# Altium footprint library MAX14871_Project.PcbLib: 22 footprints (part 1 of 2)
Each footprint in its own frame and in the unit in brackets; x right, y up, seen from the top. Pads: shape width x height; smd on the part's side, far side on the other; paste and mask are expansions set on the pad; w line width, h text height; cw(c..) or ccw(c..) is an arc to the next point about the centre after c.
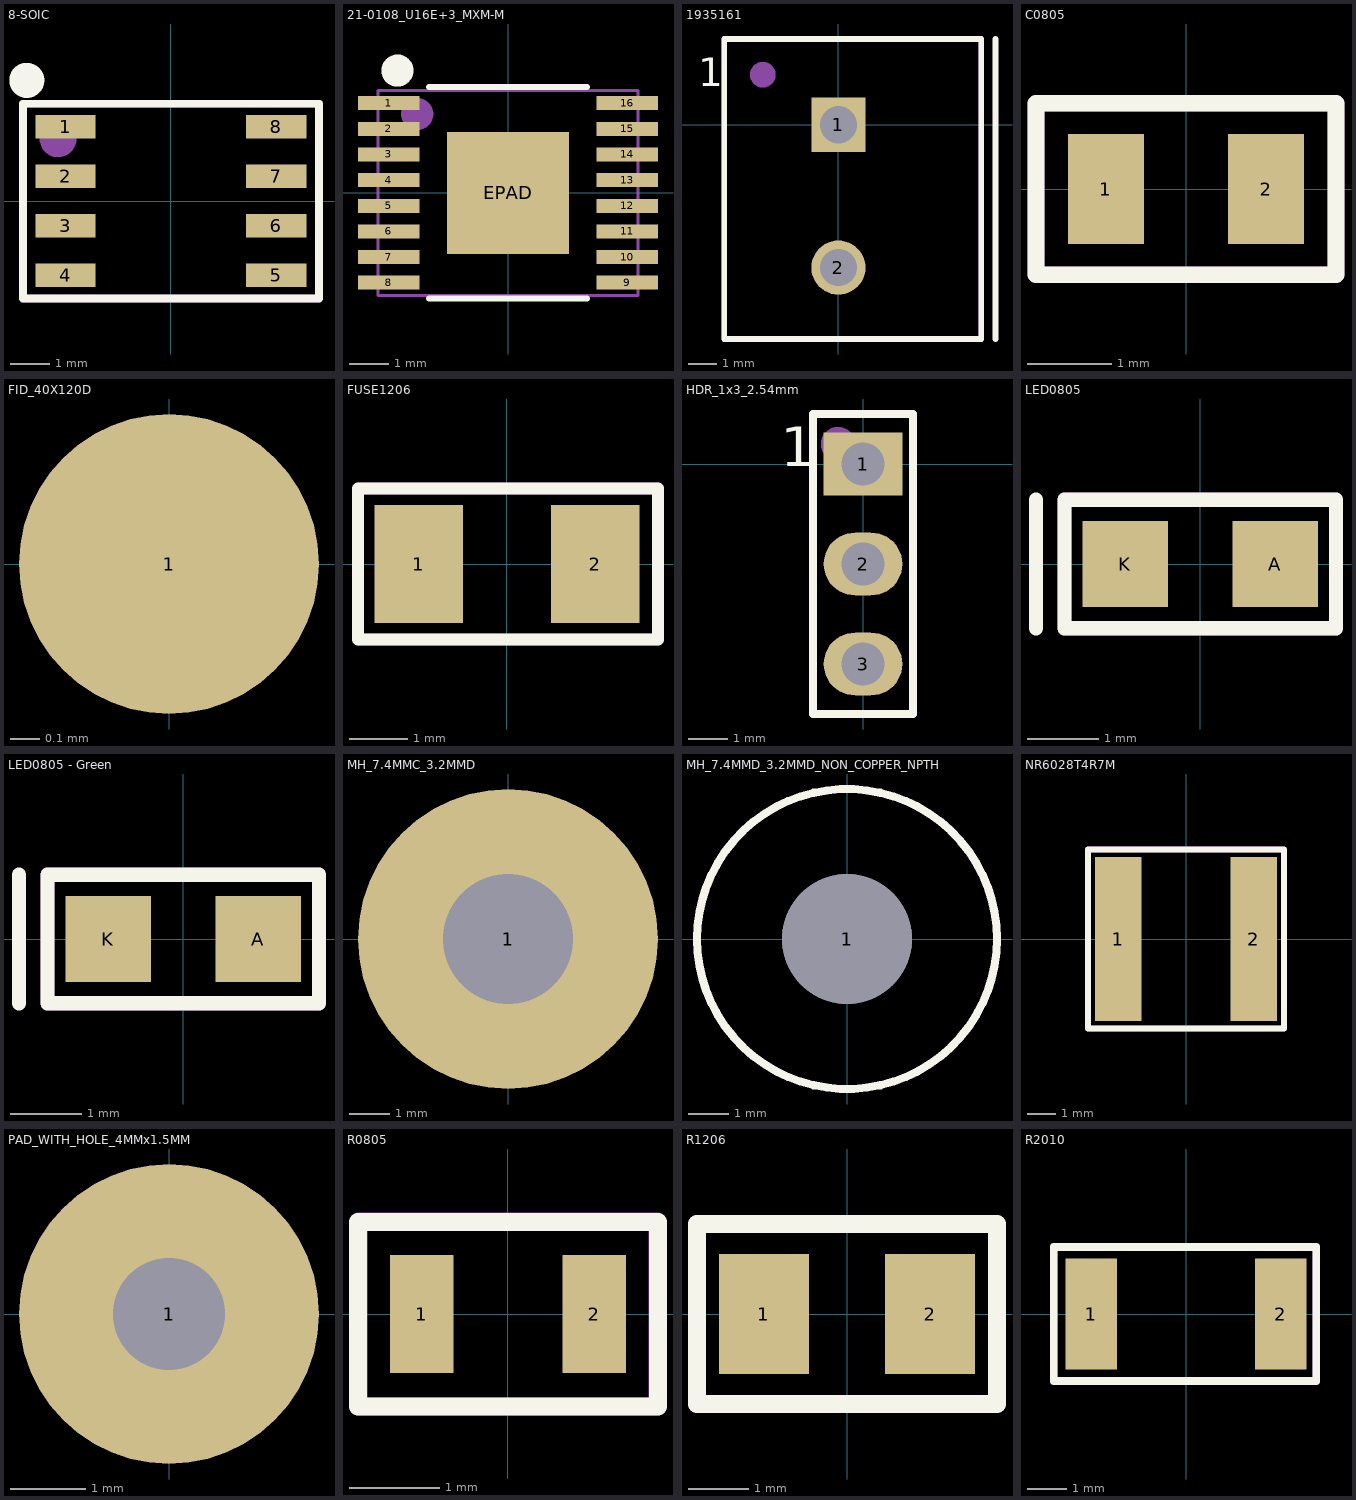
[diagram p0: the footprints below, top view; thin cyan lines are the x and y axes]

## 8-SOIC [mil]
pads (8):
  rect 61x24 smd: 1(-106.5,75) 2(-106.5,25) 3(-106.5,-25) 4(-106.5,-75) 5(106.5,-75) 6(106.5,-25) 7(106.5,25) 8(106.5,75)
Top Overlay:
  circle w19.68: c-145.67,122.05 r7.87
  lines w7.87: -149.61,-98.43 149.61,-98.43 149.61,98.43 -149.61,98.43 -149.61,-98.43
Mechanical 29 (Mech29):
  circle w19.68: c-114.17,62.99 r8.8
  lines w7.87: -149.61,-98.43 149.61,-98.43 149.61,98.43 -149.61,98.43 -149.61,-98.43
  text ".designator" at -47.24,-14.44 h39.37
3D body "NE555DR.STEP": height 69, standoff 0, extent -118,-96.5 118,96.5

## 21-0108_U16E+3_MXM-M [mm]
pads (17):
  rect 1.553x0.355 smd paste+0 mask+0: 1(-3.025,2.275) 2(-3.025,1.625) 3(-3.025,0.975) 4(-3.025,0.325) 5(-3.025,-0.325) 6(-3.025,-0.975) 7(-3.025,-1.625) 8(-3.025,-2.275) 9(3.025,-2.275) 10(3.025,-1.625) 11(3.025,-0.975) 12(3.025,-0.325) 13(3.025,0.325) 14(3.025,0.975) 15(3.025,1.625) 16(3.025,2.275)
  rect 3.099x3.099 smd paste-1.537 mask+0: EPAD(0,0)
Top Overlay:
  circle w0.508: c-2.8,3.1 r0.152
  lines w0.152: -2.005,-2.68 2.005,-2.68 ; -2.005,2.68 2.005,2.68
Top Paste:
  region: -0.1,1.449 -1.449,1.449 -1.449,0.1 -0.1,0.1
  region: -0.1,-0.1 -1.449,-0.1 -1.449,-1.449 -0.1,-1.449
  region: 1.449,1.449 0.1,1.449 0.1,0.1 1.449,0.1
  region: 1.449,-0.1 0.1,-0.1 0.1,-1.449 1.449,-1.449
Mechanical 29 (Mech29):
  circle w0.508: c-2.3,2 r0.152
  lines w0.076: -3.3,-2.6 3.3,-2.6 3.3,2.6 -3.3,2.6 -3.3,1.276 -3.3,-1.276 -3.3,-2.6
  text ".designator" at -1.149,-0.55 h1.8
3D body "21-0108_U16E3_MXM.step": height 1.09, standoff -0.05, extent -3.251,-2.553 3.251,2.553

## 1935161 [mm]
pads (2):
  rect 1.9x1.9 hole 1.3: 1(0,0)
  round 1.9 hole 1.3: 2(0,-5)
Top Overlay:
  lines w0.2: 5.5,-7.5 5.5,3 ; -4,-7.5 -4,3 5,3 5,-7.5 -4,-7.5
  text "1" at -4.9,1.35 h1
Mechanical 29 (Mech29):
  circle w0.5: c-2.646,1.75 r0.2
  lines w0.2: -4,-7.5 -4,3 5,3 5,-7.5 -4,-7.5
  text ".designator" at -2.15,-2.817 h1
3D body "1935161_56544.STEP": height 11.41, standoff -3.49, extent -4,-7.45 5,2.95

## C0805 [mm]
pads (2):
  rect 0.9x1.3 smd: 1(-0.95,0) 2(0.95,0)
Top Overlay:
  lines w0.2: -1.778,-1.016 1.778,-1.016 1.778,1.016 -1.778,1.016 -1.778,-1.016
Mechanical 29 (Mech29):
  lines w0.2: -1.778,-1.016 1.778,-1.016 1.778,1.016 -1.778,1.016 -1.778,-1.016
  text ".Designator" at -0.662,-0.208 h0.6
3D body "CAPC2012X94N EIA 0805.step": height 1.45, standoff 0.51, extent -1,-0.6 1,0.6
3D body "CAPC2012X94N EIA 0805.step": height 0.95, standoff 0.01, extent -1,-0.6 1,0.6

## FID_40X120D [mil]
pads (1):
  round 40 smd paste-40 mask+40: 1(0,0)

## FUSE1206 [mm]
pads (2):
  rect 1.52x2.03 smd: 1(-1.52,0) 2(1.52,0)
Top Overlay:
  lines w0.2: -2.565,-1.3 2.6,-1.3 2.6,1.3 -2.565,1.3 -2.565,0 -2.565,-1.3
Mechanical 29 (Mech29):
  lines w0.2: -2.563,-1.3 -2.563,1.3 2.6,1.3 2.6,-1.3 -2.563,-1.3
  text ".designator" at -1.65,-0.583 h1.4
3D body "Fuse_1206.step": height 1.17, standoff 0, extent -1.7,-0.9 1.7,0.9

## HDR_1x3_2.54mm [mm]
pads (3):
  rect 2x1.6 hole 1.1: 1(0,0)
  oval 2x1.6 hole 1.1: 2(0,-2.54) 3(0,-5.08)
Top Overlay:
  lines w0.2: -1.27,-6.35 1.27,-6.35 1.27,1.27 -1.27,1.27 -1.27,-6.35
  text "1" at -2.086,-0.054 h1
Mechanical 29 (Mech29):
  circle w0.508: c-0.635,0.508 r0.179
  lines w0.2: -1.27,-6.35 1.27,-6.35 1.27,1.27 -1.27,1.27 -1.27,-6.35
  text ".designator" at 0.762,-4.064 h1.52
3D body "HDR_1x3_ 2_54mm.STEP": height 9.21, standoff -3.49, extent -1.27,-6.35 1.27,1.27

## LED0805 [mm]
pads (2):
  rect 1.2x1.2 smd: A(1.05,0) K(-1.05,0)
Top Overlay:
  lines w0.2: -2.3,-0.9 -2.3,0 -2.3,0.9 ; -1.9,-0.9 1.9,-0.9 1.9,0.9 -1.9,0.9 -1.9,0 -1.9,-0.9
Mechanical 29 (Mech29):
  lines w0.2: -1.9,-0.9 1.9,-0.9 1.9,0.9 -1.9,0.9 -1.9,-0.9
  text ".designator" at -1.043,-0.241 h0.5
3D body "LED_0805_Red.step": height 1.11, standoff 0, extent -1,-0.625 1,0.625

## LED0805 - Green [mm]
pads (2):
  rect 1.2x1.2 smd: A(1.05,0) K(-1.05,0)
Top Overlay:
  lines w0.2: -2.3,-0.9 -2.3,0 -2.3,0.9 ; -1.9,-0.9 -1.9,0 -1.9,0.9 1.9,0.9 1.9,-0.9 -1.9,-0.9
Mechanical 29 (Mech29):
  lines w0.2: -1.9,-0.9 1.9,-0.9 1.9,0.9 -1.9,0.9 -1.9,-0.9
  text ".designator" at -0.662,-0.241 h0.5
3D body "User Library-LED-Green-0805.step": height 1.1, standoff 0, extent -1.01,-0.625 1.01,0.625

## MH_7.4MMC_3.2MMD [mm]
pads (1):
  round 7.4 hole 3.2: 1(0,0)

## MH_7.4MMD_3.2MMD_NON_COPPER_NPTH [mm]
pads (1):
  round 3.2 hole 3.2 unplated: 1(0,0)
Top Overlay:
  circle w0.2: c0,0 r3.7

## NR6028T4R7M [mm]
pads (2):
  rect 1.6x5.7 smd: 1(-2.35,0) 2(2.35,0)
Top Overlay:
  lines w0.2: -3.4,-3.1 3.4,-3.1 3.4,3.1 -3.4,3.1 -3.4,-0.7 -3.4,-3.1
Mechanical 29 (Mech29):
  lines w0.2: -3.4,-3.1 -3.4,3.1 3.4,3.1 3.4,-3.1 -3.4,-3.1
  text ".designator" at -0.7,-0.6 h1.8
3D body "NR6028T4R7M--3DModel-STEP-56544.STEP": height 2.8, standoff 0, extent -3,-3 3,3

## PAD_WITH_HOLE_4MMx1.5MM [mm]
pads (1):
  round 4 hole 1.5: 1(0,0)

## R0805 [mm]
pads (2):
  rect 0.7x1.3 smd: 1(-0.95,0) 2(0.95,0)
Top Overlay:
  lines w0.2: -1.651,-1.016 1.651,-1.016 1.651,1.016 -1.651,1.016 -1.651,-1.016
Mechanical 29 (Mech29):
  lines w0.2: -1.646,-1.016 1.646,-1.016 1.646,1.02 -1.646,1.02 -1.646,-1.016
  text ".designator" at -0.7,-0.2 h0.6
3D body "User Library-R-0805-1.step": height 0.72, standoff -0.04, extent -1.15,-0.675 1.15,0.675

## R1206 [mm]
pads (2):
  rect 1.5x2 smd: 1(-1.385,0) 2(1.385,0)
Top Overlay:
  lines w0.3: -2.5,-1.5 -2.5,-1.25 -2.5,1.25 -2.5,1.5 2.5,1.5 2.5,-1.5 -2.5,-1.5
Mechanical 29 (Mech29):
  lines w0.3: -2.5,-1.5 -2.5,1.5 2.5,1.5 2.5,-1.5 -2.5,-1.5
  text ".designator" at -0.9,-0.667 h1.6
3D body "RES_1206.STEP": height 0.57, standoff 0.01, extent -1.6,-0.83 1.6,0.83

## R2010 [mm]
pads (2):
  rect 1.3x2.8 smd: 1(-2.4,0) 2(2.4,0)
Top Overlay:
  lines w0.2: -3.35,-1.7 -3.35,0 -3.35,1.7 3.3,1.7 3.3,-1.7 -3.35,-1.7
Mechanical 29 (Mech29):
  lines w0.2: -3.35,-1.698 3.3,-1.698 3.3,1.7 -3.35,1.7 -3.35,-1.698
  text ".designator" at -1.4,-0.467 h1
3D body "R2010.step": height 0.6, standoff 0, extent -2.5,-1.25 2.5,1.25